# EAGLE library part DS1302 (library LARS_409_MC)
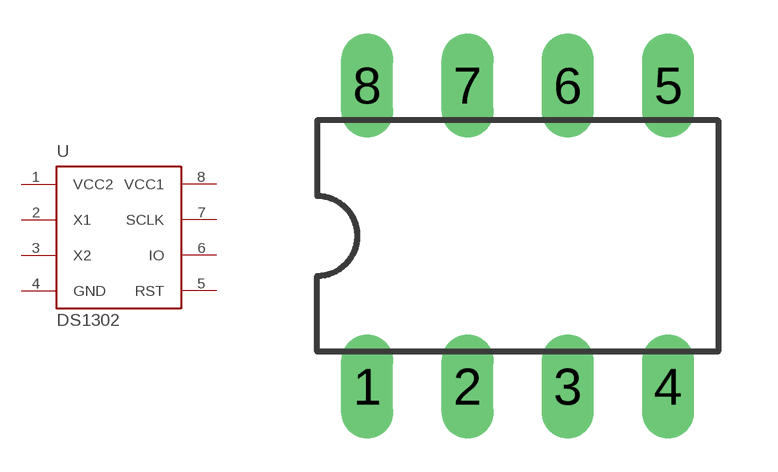
[diagram p6: symbol with the pads of PDIP-8; footprint PDIP-8]

Designator prefix U

## DS1302  [PDIP-8]
1  VCC2  pwr
2  X1
3  X2
4  GND  pwr
5  RST  in
6  IO
7  SCLK  in
8  VCC1  pwr

## Footprint PDIP-8 (pad centres in mm)
drill 0.813 long: 1 -3.81,-3.81; 2 -1.27,-3.81; 3 1.27,-3.81; 4 3.81,-3.81; 5 3.81,3.81; 6 1.27,3.81; 7 -1.27,3.81; 8 -3.81,3.81